# Altium schematic symbol library LED_0603_GREEN.SchLib: 1 symbol
Pins are listed as number, name and electrical type; pins without a type are passive.

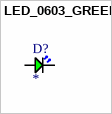
[diagram p0: symbol LED_0603_GREEN]

## LED_0603_GREEN
designator D?
25mA 60mcd Positive Stick 570nm~575nm Green-yellow 120° 55mW 2.2V 0603 LED Indication - Discrete ROHS; Manufacturer: XINGLIGHT; Manufacturer Part: XL-1608SYGC-06; Forwad Current: 25mA; Forward Voltage: 2.2V; ComponentLink1Description: Datasheet; ComponentLink1URL: https://www.lcsc.com/datasheet/lcsc_datasheet_2504101957_XINGLIGHT-XL-1608SYGC-06_C965805.pdf
footprint LED_0603_GREEN
pins: 1, 2